# Altium integrated library Pulsador.IntLib: 1 symbol
Pins are listed as number, name and electrical type; pins without a type are passive.

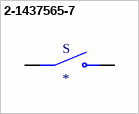
[diagram p0: symbol 2-1437565-7]

## 2-1437565-7
designator S
Tactile Switch SPST-NO Top Actuated Surface Mount; MP: 2-1437565-7; MF: TE Connectivity; Contact_Current_Rating: 50 mA; Configuration_Pole-Throw: Single Pole - Single Throw; SnapEDA_Link: https://www.snapeda.com/parts/2-1437565-7/TE%20Connectivity%20ALCOSWITCH%20Switches/view-part/214770/?ref=snap; TE_purchase_URL: https://www.te.com/usa-en/product-2-1437565-7.html?te_bu=Cor&te_type=disp&te_campaign=seda_glo_cor-seda-global-disp-prtnr-fy19-seda-model-bom-cta_sma-317_1&elqCampaignId=32493; Value: *; Package: None; Price: None; Availability: Unavailable
footprint SW_2-1437565-7
pins: 1 COM, 2 COM, 3 NO, 4 NO